# EAGLE library part STUSB4500 (library STUSB)
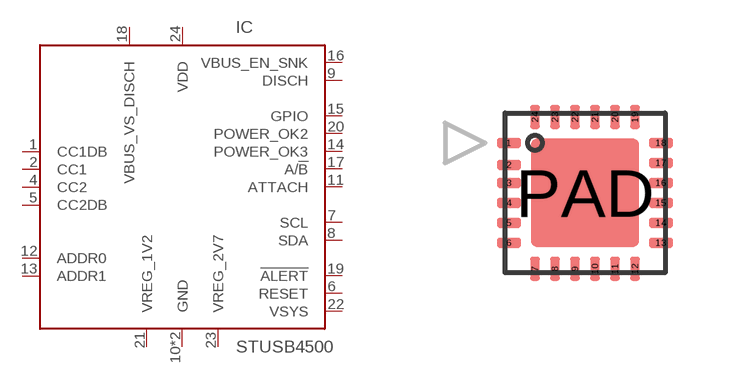
[diagram p0: symbol with the pads of QFN24-0.5-4X4; footprint QFN24-0.5-4X4]

Designator prefix IC

## STUSB4500QTR (ADDRESS: 0x28; MARK: 4500; MF: ST; MPN: STUSB4500QTR)  [QFN24-0.5-4X4]
1  CC1DB
2  CC1
4  CC2
5  CC2DB
6  RESET  in
7  SCL  in
8  SDA  oc
9  DISCH  oc
10  GND  pwr
11  ATTACH  oc
12  ADDR0  in
13  ADDR1  in
14  POWER_OK3  oc
15  GPIO  oc
16  VBUS_EN_SNK  oc
17  A/!B!  oc
18  VBUS_VS_DISCH  oc
19  !ALERT  oc
20  POWER_OK2  oc
21  VREG_1V2
22  VSYS  in
23  VREG_2V7
24  VDD
PAD  GND  pwr

## Footprint QFN24-0.5-4X4 (pad centres in mm)
smd 0.6 x 0.24: 1 -1.9,1.25; 2 -1.9,0.7; 3 -1.9,0.25; 4 -1.9,-0.25; 5 -1.9,-0.75; 6 -1.9,-1.25; 13 1.9,-1.25; 14 1.9,-0.75; 15 1.9,-0.25; 16 1.9,0.25; 17 1.9,0.75; 18 1.9,1.25
smd 0.24 x 0.6: 7 -1.25,-1.9; 8 -0.75,-1.9; 9 -0.25,-1.9; 10 0.25,-1.9; 11 0.75,-1.9; 12 1.25,-1.9; 19 1.25,1.9; 20 0.75,1.9; 21 0.25,1.9; 22 -0.25,1.9; 23 -0.75,1.9; 24 -1.25,1.9
smd 2.7 x 2.7: PAD 0,0